# EAGLE library part TDA1543 (library TDA1543)
TDA1543 I2S DAC
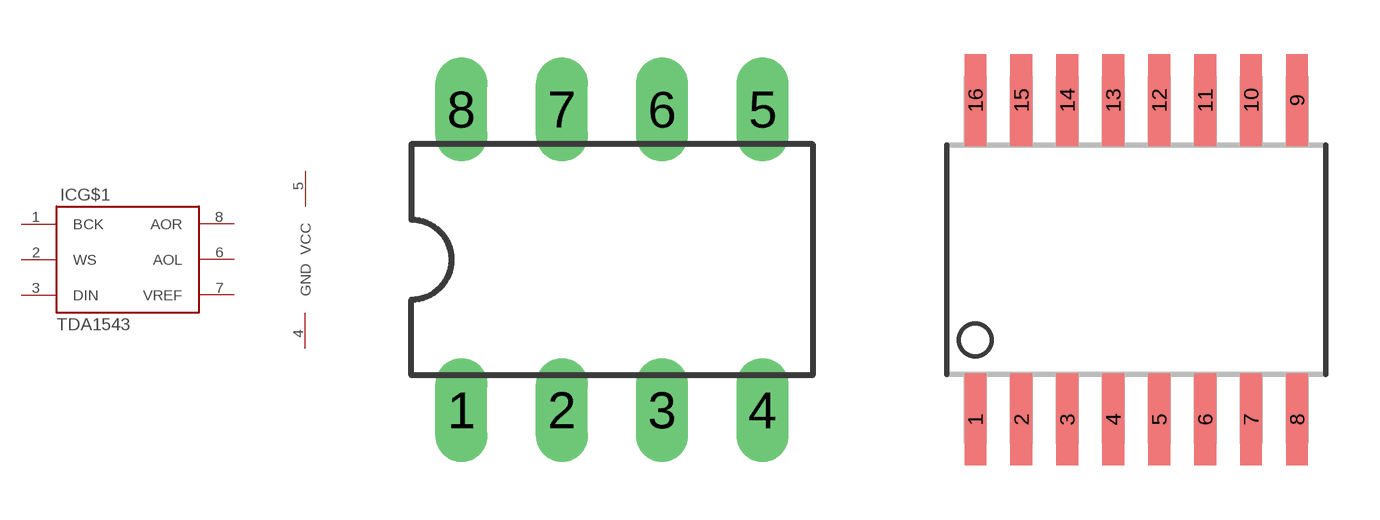
[diagram p0: symbol with the pads of DIL-08; footprints DIL-08, SOIC-16NW]

Designator prefix IC; gates G$1=TDA1543 P1=POWER

## TDA1543  [DIL-08]
1  G$1:BCK  in
2  G$1:WS  in
3  G$1:DIN  in
4  P1:GND  pwr
5  P1:VCC  pwr
6  G$1:AOL  out
7  G$1:VREF  oc
8  G$1:AOR  out

## TDA1543T  [SOIC-16NW]
3  G$1:BCK  in
4  G$1:WS  in
5  G$1:DIN  in
6  P1:GND  pwr
11  P1:VCC  pwr
12  G$1:AOL  out
13  G$1:VREF  oc
14  G$1:AOR  out

## Footprint DIL-08 (pad centres in mm)
Dual In Line Package
drill 0.813 long: 1 -3.81,-3.81; 2 -1.27,-3.81; 3 1.27,-3.81; 4 3.81,-3.81; 5 3.81,3.81; 6 1.27,3.81; 7 -1.27,3.81; 8 -3.81,3.81

## Footprint SOIC-16NW (pad centres in mm)
SO-16
smd 0.6 x 2.54: 1 -4.445,-4.415; 2 -3.175,-4.415; 3 -1.905,-4.415; 4 -0.635,-4.415; 5 0.635,-4.415; 6 1.905,-4.415; 7 3.175,-4.415; 8 4.445,-4.415; 9 4.445,4.415; 10 3.175,4.415; 11 1.905,4.415; 12 0.635,4.415; 13 -0.635,4.415; 14 -1.905,4.415; 15 -3.175,4.415; 16 -4.445,4.415